# Altium footprint library layouts.PcbLib: 23 footprints (part 1 of 2)
Each footprint in its own frame and in the unit in brackets; x right, y up, seen from the top. Pads: shape width x height; smd on the part's side, far side on the other; paste and mask are expansions set on the pad; w line width, h text height; cw(c..) or ccw(c..) is an arc to the next point about the centre after c.
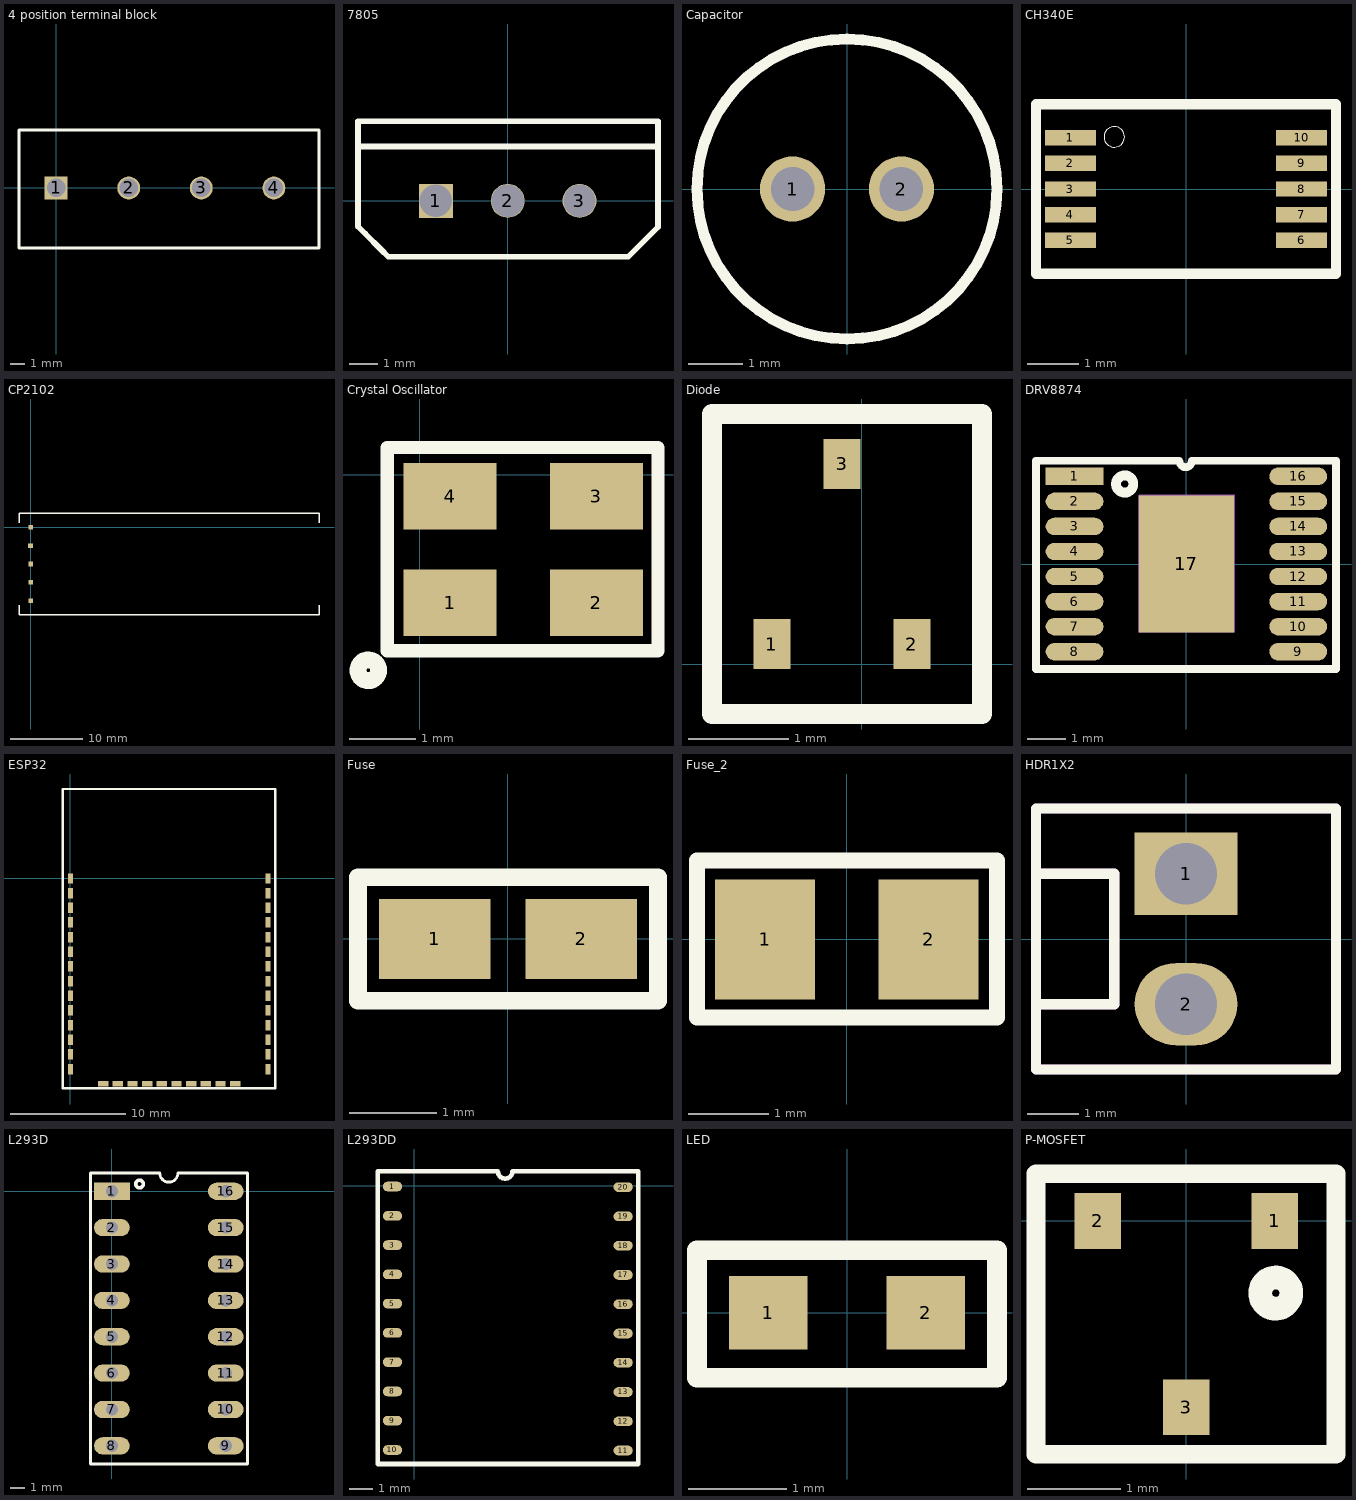
[diagram p0: the footprints below, top view; thin cyan lines are the x and y axes]

## 4 position terminal block [mm]
pads (4):
  rect 1.6x1.6 hole 1.3: 1(0,0)
  round 1.6 hole 1.3: 2(5.08,0) 3(10.16,0) 4(15.24,0)
Top Overlay:
  lines w0.2: -2.6,-4.2 -2.6,4.05 18.4,4.05 18.4,-4.2 -2.6,-4.2
Mechanical 1:
  text ".Designator" at -2.446,5.062 h1.52
3D body "1729144.step": height 9.97, standoff -3.5, extent -2.515,-4.15 18.37,4

## 7805 [mm]
pads (3):
  rect 1.2x1.2 hole 1.15: 1(-2.54,0)
  round 1.2 hole 1.15: 2(0,0) 3(2.54,0)
Top Overlay:
  lines w0.2: -5.3,1.921 5.318,1.921 ; -5.3,-0.907 -5.3,2.822 5.318,2.822 5.318,-0.925 4.26,-1.984 -4.223,-1.984 -4.493,-1.714 -5.031,-1.176 -5.3,-0.907
Mechanical 1:
  text ".Designator" at -4.943,3.48 h1.52
3D body "TO-220_STM.step": height 19.71, standoff -6.48, extent -5.197,-1.88 5.217,2.718

## Capacitor [mm]
pads (2):
  round 1.2 hole 0.8: 1(-1,0) 2(1,0)
Top Overlay:
  circle w0.2: c0,0 r2.756
Mechanical 29:
  text ".Designator" at -2.502,3.515 h1.52
3D body "CAP_WCAP-ATG5_05_0X11_0_WRE.step": height 12.51, standoff -4.22, extent -2.756,-2.753 2.785,2.753

## CH340E [mm]
pads (10):
  rect 1x0.3 smd paste-1 mask+0.05: 1(-2.25,1) 2(-2.25,0.5) 3(-2.25,0) 4(-2.25,-0.5) 5(-2.25,-1) 6(2.25,-1) 7(2.25,-0.5) 8(2.25,0) 9(2.25,0.5) 10(2.25,1)
Top Overlay:
  circle w0: c-1.397,1.016 r0.2
  lines w0.2: -2.921,-1.651 -2.921,1.651 ; 2.921,-1.651 2.921,1.651
  lines w0.203: -2.921,-1.651 2.921,-1.651 ; -2.921,1.651 2.921,1.651
Top Paste:
  region: -1.825,0.875 -2.7,0.875 -2.7,1.125 -1.825,1.125
  region: -1.825,0.375 -2.7,0.375 -2.7,0.625 -1.825,0.625
  region: -1.825,-0.125 -2.7,-0.125 -2.7,0.125 -1.825,0.125
  region: -1.825,-0.625 -2.7,-0.625 -2.7,-0.375 -1.825,-0.375
  region: -1.825,-1.125 -2.7,-1.125 -2.7,-0.875 -1.825,-0.875
  region: 2.7,-1.125 1.825,-1.125 1.825,-0.875 2.7,-0.875
  region: 2.7,-0.625 1.825,-0.625 1.825,-0.375 2.7,-0.375
  region: 2.7,-0.125 1.825,-0.125 1.825,0.125 2.7,0.125
  region: 2.7,0.375 1.825,0.375 1.825,0.625 2.7,0.625
  region: 2.7,0.875 1.825,0.875 1.825,1.125 2.7,1.125
3D body "step_temp.STEP": height 1, standoff 0, extent -2.45,-1.5 2.45,1.5

## CP2102 [mm]
pads (5):
  rect 0.64x0.64 smd: 1(0,0) 2(-0.009,-2.538) 3(0,-5.08) 4(0.005,-7.602) 5(0,-10.16)
Top Overlay:
  lines w0.2: -1.601,0.64 -1.601,1.92 1.06,1.92 ; -1.594,-10.8 -1.594,-12.08 1.06,-12.08 ; 1.14,-12.08 39.834,-12.08 39.834,-10.8 ; 1.14,1.92 39.834,1.92 39.834,0.64
3D body "User Library-CP2102 Modules USB to TTL.STEP": height 6, standoff 0.2, extent -1.484,-12.062 39.716,1.938

## Crystal Oscillator [mm]
pads (4):
  rect 1.4x1 smd: 1(0.461,-1.927) 2(2.661,-1.927) 3(2.661,-0.327) 4(0.461,-0.327)
Top Overlay:
  circle w0.254: c-0.771,-2.945 r0.155
  lines w0.2: -0.488,-2.653 3.587,-2.653 3.587,0.408 -0.488,0.408 -0.488,-2.653
Mechanical 1:
  text ".Designator" at -0.234,1.17 h1.52
3D body "ASEK.STEP": height 1.2, standoff 0, extent -0.091,-2.402 3.109,0.098

## Diode [mm]
pads (3):
  rect 0.37x0.5 smd: 1(-0.9,0.2) 2(0.5,0.2) 3(-0.2,2)
Top Overlay:
  lines w0.2: -1.5,-0.5 1.2,-0.5 1.2,2.5 -1.5,2.5 -1.5,0.735 -1.5,-0.5
3D body "2sa1612-t1-a.stp": height 0.95, standoff 0, extent -1.2,0.05 0.8,2.15

## DRV8874 [mm]
pads (17):
  rect 1.5x0.45 smd: 1(-2.9,2.275)
  oval 1.5x0.45 smd: 2(-2.9,1.625) 3(-2.9,0.975) 4(-2.9,0.325) 5(-2.9,-0.325) 6(-2.9,-0.975) 7(-2.9,-1.625) 8(-2.9,-2.275) 9(2.9,-2.275) 10(2.9,-1.625) 11(2.9,-0.975) 12(2.9,-0.325) 13(2.9,0.325) 14(2.9,0.975) 15(2.9,1.625) 16(2.9,2.275)
  rect 2.46x3.55 smd mask-2539.97: 17(0.001,0)
Top Overlay:
  circle w0.254: c-1.6,2.075 r0.224
  lines w0.2: -3.9,-2.725 3.881,-2.725 3.881,2.675 0.144,2.675 cw(c-0.019,2.675) -0.181,2.675 -3.9,2.675 -3.9,-2.725
Top Solder:
  region: -0.749,-0.225 -0.749,0.225 0.751,0.225 0.751,-0.225
Mechanical 1:
  pour cut-out: 1.25,-1.775 1.25,1.8 -1.225,1.8 -1.25,1.775 -1.25,-1.775 0,-1.775 -1.25,-1.775 0,-1.775
  text ".Designator" at -3.746,3.437 h1.52
3D body "DRV8874QPWPRQ1.step": height 1.2, standoff 0, extent -3.2,-2.525 3.2,2.475

## ESP32 [mm]
pads (38):
  rect 0.45x0.9 smd: 1(0,0) 2(0,-1.27) 3(0,-2.54) 4(0,-3.81) 5(0,-5.08) 6(0,-6.35) 7(0,-7.62) 8(0,-8.89) 9(0,-10.16) 10(0,-11.43) 11(0,-12.7) 12(0,-13.97) 13(0,-15.24) 14(0,-16.51) 25(17.1,-16.51) 26(17.1,-15.24) 27(17.1,-13.97) 28(17.1,-12.7) 29(17.1,-11.43) 30(17.1,-10.16) 31(17.1,-8.89) 32(17.1,-7.62) 33(17.1,-6.35) 34(17.1,-5.08) 35(17.1,-3.81) 36(17.1,-2.54) 37(17.1,-1.27) 38(17.1,0)
  rect 0.9x0.45 smd: 15(2.835,-17.785) 16(4.105,-17.785) 17(5.375,-17.785) 18(6.645,-17.785) 19(7.915,-17.785) 20(9.185,-17.785) 21(10.455,-17.785) 22(11.725,-17.785) 23(12.995,-17.785) 24(14.265,-17.785)
Top Overlay:
  lines w0.2: -0.66,-18.161 17.729,-18.161 17.729,7.747 -0.66,7.747 -0.66,-18.161
Mechanical 29:
  text ".Designator" at -0.406,8.509 h1.52
3D body "ESP32-WROOM-32D--3DModel-STEP-510211.STEP": height 3.25, standoff 0, extent -0.44,-18.008 17.56,7.492

## Fuse [mm]
pads (2):
  rect 1.27x0.91 smd: 1(-0.835,0) 2(0.835,0)
Top Overlay:
  lines w0.2: -1.712,-0.707 -1.712,0.705 1.712,0.705 1.712,-0.707 -1.712,-0.707
Mechanical 1:
  text ".Designator" at -1.458,1.467 h1.52
3D body "fuse.step": height 0.6, standoff 0, extent -0.765,-0.41 0.835,0.41

## Fuse_2 [mm]
pads (2):
  rect 1.25x1.5 smd: 1(-1.025,0) 2(1.025,0)
Top Overlay:
  lines w0.2: -1.877,-0.979 -1.877,0.99 1.883,0.99 1.883,-0.979 -1.877,-0.979
3D body "FUS_VISHAY_MFU0805_VIS.step": height 0.56, standoff 0, extent -1.054,-0.701 1.054,0.701

## HDR1X2 [mm]
pads (2):
  rect 2x1.6 hole 1.2: 1(0,1.27)
  oval 2x1.6 hole 1.2: 2(0,-1.27)
Top Overlay:
  lines w0.2: -2.921,-1.27 -1.397,-1.27 -1.397,1.27 -2.921,1.27 ; -2.921,-2.54 -2.921,2.54 2.921,2.54 2.921,-2.54 -2.921,-2.54
Mechanical 29:
  lines w0.2: -2.921,-1.27 -1.397,-1.27 -1.397,1.27 -2.921,1.27 ; -2.921,-2.54 -2.921,2.54 2.921,2.54 2.921,-2.54 -2.921,-2.54
  text ".Designator" at -4.14,3.2 h1.52
3D body "022292021.stp": height 11.9, standoff -3.36, extent -2.9,-2.54 2.9,2.54

## L293D [mm]
pads (16):
  rect 2.5x1.2 hole 0.85: 1(0,0)
  oval 2.5x1.2 hole 0.85: 2(0,-2.54) 3(0,-5.08) 4(0,-7.62) 5(0,-10.16) 6(0,-12.7) 7(0,-15.24) 8(0,-17.78) 9(7.95,-17.78) 10(7.95,-15.24) 11(7.95,-12.7) 12(7.95,-10.16) 13(7.95,-7.62) 14(7.95,-5.08) 15(7.95,-2.54) 16(7.95,0)
Top Overlay:
  circle w0.254: c1.93,0.508 r0.265
  lines w0.2: -1.499,-19.05 -1.499,1.27 3.34,1.27 ccw(c3.975,1.27) 4.61,1.27 9.474,1.27 9.474,-19.05 -1.499,-19.05
Mechanical 29:
  text ".Designator" at -1.397,2.083 h1.52
3D body "PowerDIP-16_STM.step": height 5.24, standoff -2.54, extent -0.127,-18.885 8.001,1.105

## L293DD [mm]
pads (20):
  oval 0.835x0.42 smd: 1(-0.94,-0.025) 2(-0.94,-1.295) 3(-0.94,-2.565) 4(-0.94,-3.835) 5(-0.94,-5.105) 6(-0.94,-6.375) 7(-0.94,-7.645) 8(-0.94,-8.915) 9(-0.94,-10.185) 10(-0.94,-11.455) 11(9.068,-11.481) 12(9.068,-10.211) 13(9.068,-8.941) 14(9.068,-7.671) 15(9.068,-6.401) 16(9.068,-5.131) 17(9.068,-3.861) 18(9.068,-2.591) 19(9.068,-1.321) 20(9.068,-0.051)
Top Overlay:
  lines w0.2: -1.58,-12.065 9.725,-12.065 9.725,0.635 4.267,0.635 cw(c3.95,0.635) 3.632,0.635 -1.58,0.635 -1.58,-12.065
Mechanical 29:
  text ".Designator" at -1.326,1.397 h1.52
3D body "L293DD--3DModel-STEP-56544 (1).STEP": height 2.65, standoff 0, extent -1.073,-12.115 9.252,0.685

## LED [mm]
pads (2):
  rect 0.8x0.75 smd: 1(-0.8,0) 2(0.8,0)
Top Overlay:
  lines w0.2: -1.524,-0.66 -1.524,0.635 1.524,0.635 1.524,-0.66 -1.524,-0.66
Mechanical 1:
  text ".Designator" at -1.646,1.062 h1.52
3D body "Download_STP_WL-WL-SMCD-0603_rev1.stp": height 0.4, standoff 0, extent -0.8,-0.4 0.8,0.4

## P-MOSFET [mm]
pads (3):
  rect 0.5x0.6 smd: 1(0.95,0) 2(-0.95,0) 3(0,-2)
Top Overlay:
  circle w0.254: c0.962,-0.775 r0.168
  lines w0.2: -1.614,-2.505 1.609,-2.505 1.609,0.507 -1.614,0.507 -1.614,-2.505
Mechanical 29:
  text ".Designator" at -1.36,1.269 h1.52
3D body "SOT23-BSS84AK_NEX.step": height 1.09, standoff 0, extent -1.499,-2.245 1.499,0.245